# Altium integrated library OS102011MS2QN1.IntLib: 1 symbol
Pins are listed as number, name and electrical type; pins without a type are passive.

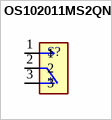
[diagram p0: symbol OS102011MS2QN1]

## OS102011MS2QN1
designator S?
SLIDE SWITCH SPDT T/H ON-ON BBM; MP: OS102011MS2QN1; MF: C&K; SnapEDA_Link: https://www.snapeda.com/parts/OS102011MS2QN1/C%2526K/view-part/?ref=snap; Purchase-URL: https://pricing.snapeda.com/search/part/OS102011MS2QN1/?ref=eda; Value: *; Digi-Key_Part_Number: CKN9565-ND; Check_prices: https://www.snapeda.com/parts/OS102011MS2QN1/C%2526K/view-part/?ref=eda; Package: None
footprint SW_OS102011MS2QN1
pins: 1, 2, 3